# Altium schematic symbol library Cap_Murata_ZRB18AR6YA475ME05L_22uF.SchLib: 1 symbol
Pins are listed as number, name and electrical type; pins without a type are passive.

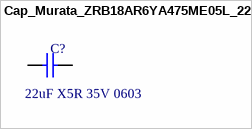
[diagram p0: symbol Cap_Murata_ZRB18AR6YA475ME05L_22uF]

## Cap_Murata_ZRB18AR6YA475ME05L_22uF
designator C?  Parameter 2: 22uF X5R 35V 0603  (hidden comment: Cap_Murata_ZRB18AR6YA475ME05L_22uF)
CAP CER 22uF 25V X5R 0603
pins: 1, 2